# EAGLE library part INA213AQDCKRQ1 (library PDM_2019_RevB)
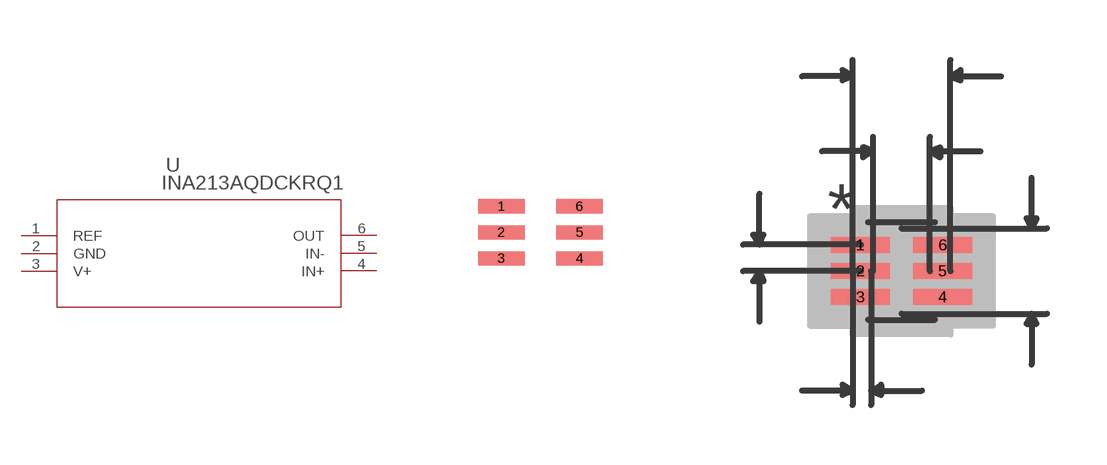
[diagram p4: symbol with the pads of DCK6; footprints DCK6, DCK6-M]

Designator prefix U

## INA213AQDCKRQ1 (MANUFACTURER_PART_NUMBER: INA213AQDCKRQ1; VENDOR: Texas Instruments)  [DCK6]
1  REF  pwr
2  GND  pwr
3  V+  pwr
4  IN+  in
5  IN-  in
6  OUT  out

## INA213AQDCKRQ1DCK6-M (MANUFACTURER_PART_NUMBER: INA213AQDCKRQ1; VENDOR: Texas Instruments)  [DCK6-M]
Pads as for DCK6

## INA213AQDCKRQ1DCK6-L (MANUFACTURER_PART_NUMBER: INA213AQDCKRQ1; VENDOR: Texas Instruments)  [DCK6-L]
Pads as for DCK6

## Footprint DCK6 (pad centres in mm)
smd 1.168 x 0.356: 1 -0.978,0.65; 2 -0.978,0; 3 -0.978,-0.65; 4 0.978,-0.65; 5 0.978,0; 6 0.978,0.65

## Footprint DCK6-M (pad centres in mm)
smd 1.473 x 0.406: 1 -1.029,0.65; 2 -1.029,0; 3 -1.029,-0.65; 4 1.029,-0.65; 5 1.029,0; 6 1.029,0.65

## Footprint DCK6-L (pad centres in mm)
smd 0.864 x 0.305: 1 -0.927,0.65; 2 -0.927,0; 3 -0.927,-0.65; 4 0.927,-0.65; 5 0.927,0; 6 0.927,0.65